# EAGLE library part 62002011821 (library Eagle_BOARD-TO-BOARD_CONNECTORS (rev18b))
WR-PHD 2.00mm Socket Header, 20 Pins=>Code : Con_BTB_SHD_2.00_1_THT_62002011821 <http://katalog.we-online.de/media/thumbs2/eican/thb_Con_BTB_SHD_2.00_1_THT_6200xx11821_pf2.jpg> Details see: http://katalog.we-online.de/en/em/PHD_2_00_SOCKET_HEADER_6200XX11821 Created 2014-06-03, Karrer Zheng 2014 (C) Würth Elektronik
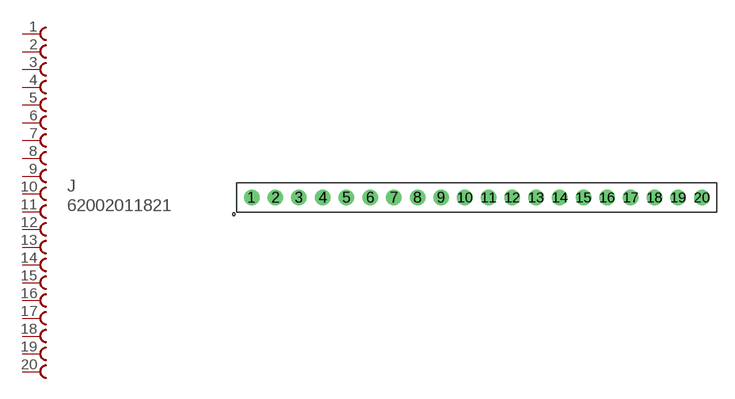
[diagram p243: symbol with the pads of 62002011821; footprint 62002011821]

Designator prefix J

## 62002011821  [62002011821]
1  1  pas
2  2  pas
3  3  pas
4  4  pas
5  5  pas
6  6  pas
7  7  pas
8  8  pas
9  9  pas
10  10  pas
11  11  pas
12  12  pas
13  13  pas
14  14  pas
15  15  pas
16  16  pas
17  17  pas
18  18  pas
19  19  pas
20  20  pas

## Footprint 62002011821 (pad centres in mm)
WR-PHD 2.00mm Socket Header, 20 Pins
drill 0.8: 1 -19,0; 2 -17,0; 3 -15,0; 4 -13,0; 5 -11,0; 6 -9,0; 7 -7,0; 8 -5,0; 9 -3,0; 10 -1,0; 11 1,0; 12 3,0; 13 5,0; 14 7,0; 15 9,0; 16 11,0; 17 13,0; 18 15,0; 19 17,0; 20 19,0